# Altium schematic symbol library Control_unit-RM.SCHLIB: 24 symbols
Pins are listed as number, name and electrical type; pins without a type are passive.

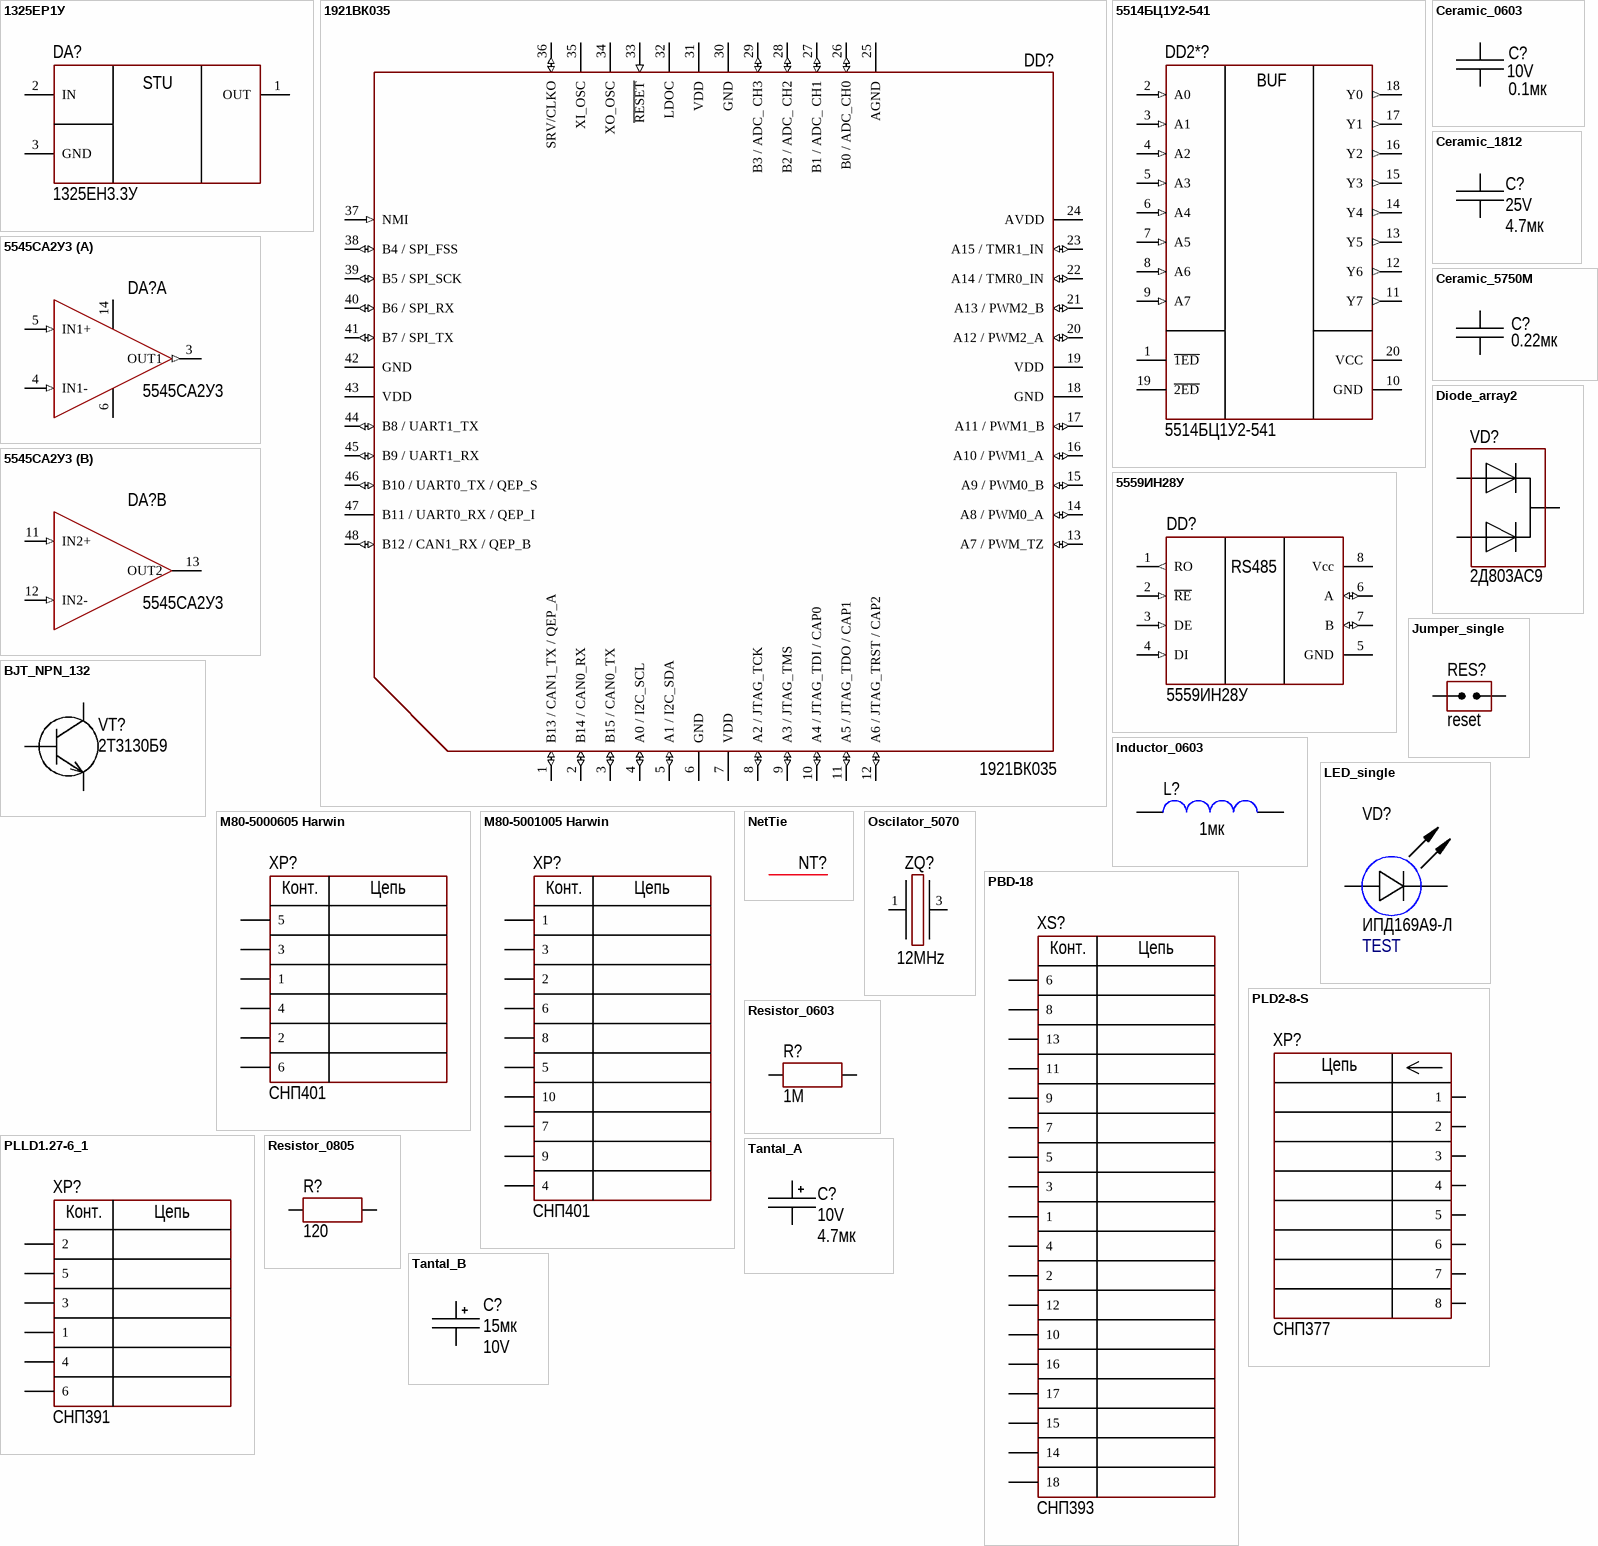
[diagram p0: symbols 1325ЕР1У to Tantal_B]

## 1325ЕР1У
designator DA?  PartNumber: 1325ЕН3.3У
Linear voltage regulator 3V3; Manufacturer: Интеграл; ValueManufacturerPartNumber: Linear voltage regulator, input 4.75...15V, 1.3V, output 3.3V, 0.8A, -40...+85°C, КТ-93-1; VoltageInput: input 4.75...15V; MaxDropout: 1.3V; CurrentOutput: 0.8A; VoltageOutput: output 3.3V; MAX: 00141284; HelpURL: https://www.integral.by/sites/default/files/pdf/specifikaciya_serii_1325.pdf; Package: КТ-93-1; ComponentType: Linear voltage regulator; Temperature: -40...+85°C
footprint KT-93-1
pins: 1 OUT (power), 2 IN (power), 3 GND (power)
text: STU

## 1921ВК035
designator DD?  PartNumber: 1921ВК035
Cortex-M4F; Manufacturer: НИИЭТ; ValueManufacturerPartNumber: Motor control microcontroller, 32-Bit, RISC, 100MHz, 64KB, 16KB, 3,3 В ± 10 %., -60...+85°C, 48-QLCC (МК 5162.48-1); Supply: 3,3 В ± 10 %.; Speed: 100MHz; CoreSize: 32-Bit; MemoryROM: 64KB; MemoryRAM: 16KB; CoreProcessor: RISC; HelpURL: https://niiet.ru/goods/tranzmod/newtr; Package: 48-QLCC (МК 5162.48-1); ComponentType: Motor control microcontroller; Temperature: -60...+85°C
footprint 48-QLCC (МК 5162.48-1) - small pads (QFN-cl-h-48-0.5-002 Тихонов Е.Н.)
pins: 1 B13 / CAN1_TX / QEP_A (io), 2 B14 / CAN0_RX (io), 3 B15 / CAN0_TX (io), 4 A0 / I2C_SCL (io), 5 A1 / I2C_SDA (io), 6 GND (power), 7 VDD (power), 8 A2 / JTAG_TCK (io), 9 A3 / JTAG_TMS (io), 10 A4 / JTAG_TDI / CAP0 (io), 11 A5 / JTAG_TDO / CAP1 (io), 12 A6 / JTAG_TRST / CAP2 (io), 13 A7 / PWM_TZ (io), 14 A8 / PWM0_A (io), 15 A9 / PWM0_B (io), 16 A10 / PWM1_A (io), 17 A11 / PWM1_B (io), 18 GND (power), 19 VDD (power), 20 A12 / PWM2_A (io), 21 A13 / PWM2_B (io), 22 A14 / TMR0_IN (io), 23 A15 / TMR1_IN (io), 24 AVDD (power), 25 AGND (power), 26 B0 / ADC_CH0 (io), 27 B1 / ADC_ CH1 (io), 28 B2 / ADC_ CH2 (io), 29 B3 / ADC_ CH3 (io), 30 GND (power), 31 VDD (power), 32 LDOC, 33 ~{RESET} (in), 34 XO_OSC, 35 XI_OSC, 36 SRV/CLKO (io), 37 NMI (in), 38 B4 / SPI_FSS (io), 39 B5 / SPI_SCK (io), 40 B6 / SPI_RX (io), 41 B7 / SPI_TX (io), 42 GND (power), 43 VDD (power), 44 B8 / UART1_TX (io), 45 B9 / UART1_RX (io), 46 B10 / UART0_TX / QEP_S (io), 47 B11 / UART0_RX / QEP_I, 48 B12 / CAN1_RX / QEP_B (io)

## 5514БЦ1У2-541
designator DD2*?  PartNumber: 5514БЦ1У2-541
USSR Buffer QFN; Manufacturer: Анстрем; ValueManufacturerPartNumber: 8 канальный буфер, 4.5..5.5V, -60...+125°C, 5121.20-A; Supply: 4.5..5.5V; Analog: функц.-й аналог 74(54)HC 541; Package: 5121.20-A; ComponentType: 8 канальный буфер; Temperature: -60...+125°C
footprint 20-QLCC (5121.20-A) (LCC, 20-Pins, Body 8,89x8,89mmx2,55mm, Pitch 1,27mm, IPC Medium Density)
pins: 1 ~{1ED}, 2 A0 (in), 3 A1 (in), 4 A2 (in), 5 A3 (in), 6 A4 (in), 7 A5 (in), 8 A6 (in), 9 A7 (in), 10 GND (power), 11 Y7 (out), 12 Y6 (out), 13 Y5 (out), 14 Y4 (out), 15 Y3 (out), 16 Y2 (out), 17 Y1 (out), 18 Y0 (out), 19 ~{2ED}, 20 VCC (power)
text: BUF

## 5545СА2У3
designator DA?  PartNumber: 5545СА2У3
Comparator USSR; Manufacturer: НПП ВОСТОК; ValueManufacturerPartNumber: IC comparator, Open Drain, от ± 1,5В до ± 16,5В, -60...+125°C, Н04.16-1В; Supply: от ± 1,5В до ± 16,5В; OutputType: Open Drain; Analog: LM2903D; TY: АЕЯР.431350.632-02 ТУ; HelpURL: http://www.vostok.nsk.su/files/pdf/152181836987_5545ca2u3.pdf; Package: Н04.16-1В; ComponentType: IC comparator; Temperature: -60...+125°C
footprint 16-Н04.16-1B (USSR)
part A pins: 3 OUT1 (out), 4 IN1- (in), 5 IN1+ (in), 6 V- (power), 14 V+ (power)
part B pins: 11 IN2+ (in), 12 IN2- (in), 13 OUT2 (power)

## 5559ИН28У
designator DD?
RS485 USSR; Manufacturer: Миландр; Supply: 3-5V; DataRate: 30 Mbs; MAX: 00148111; Type: RS-485 transceiver; Package: Н02.8-1В; PartNumber: 5559ИН28У; HelpURL: https://ic.milandr.ru/products/interfeysnye_mikroskhemy/rs485-rs422/5559in28u/
footprint Н02.8-1В (USSR)
pins: 1 RO (out) "Loc: 1-2", 2 ~{RE} (in) "Loc: 2-3", 3 DE (in) "Loc: 2-4", 4 DI (in) "Loc: 1-3", 5 GND (power) "Loc: 1-4", 6 A (io) "Loc: 2-1", 7 B (io) "Loc: 2-2", 8 Vcc (power) "Loc: 1-1", 9 TP hidden to DGND "connect to GND"
text: RS485

## BJT_NPN_132
designator VT?  PartNumber: 2Т3130Б9
Manufacturer: ООО НПК Далекс; ValueManufacturerPartNumber: NPN transistor, 30V, 100mA, , 300mW, 0.7V, 500, SOT-23 (КТ-46), -55...+125°C; TypeTransistor: NPN transistor; VoltageCE: 30V; CurrentCE: 100mA; VoltageSaturation: 0.7V; CurrentGain: 500; MaxPower: 300mW; MAX: 00123842; Package: SOT-23 (КТ-46); HelpURL: http://www.radioman-portal.ru/sprav/pp/transisters/sourse/2t3130.pdf; Temperature: -55...+125°C
footprint SOT23
footprint D2PAK
footprint DPAK
pins: 1 B, 2 E, 3 C

## Ceramic_0603
designator C?  value 0.1мк  Voltage: 10V
Manufacturer: Гириконд; PartNumber: К10-79-10В-0,1 мкФ +80-20% H90; ValueManufacturerPartNumber: Ceramic capacitor, 0.1мк, H90, +80-20%, 10V, 0603, -55...+125°C; TypeCapacitor: Ceramic capacitor; Tolerance: +80-20%; TypeDielectric: H90; MAX: 00131675; Package: 0603; HelpURL: http://www.giricond.ru/files/k10-79_vp_2018_saiyt.pdf; Temperature: -55...+125°C
footprint CAP: 0603P (small var)
pins: 1, 2

## Ceramic_1812
designator C?  value 4.7мк  Voltage: 25V
Manufacturer: Монолит; PartNumber: К10-84в-4532М-25В-4,7 мкФ +80/-20%-Н90-N-A; ValueManufacturerPartNumber: Ceramic capacitor, 4.7мк, H90, +80 -20%, 25V, 1812 (4532М) (4.5x3.2), -55...+125°C; TypeCapacitor: Ceramic capacitor; Tolerance: +80 -20%; TypeDielectric: H90; Package: 1812 (4532М) (4.5x3.2); HelpURL: http://www.monolit.vitebsk.by/Files/K10-84.pdf; Temperature: -55...+125°C
footprint CAP: 1812
pins: 1, 2

## Ceramic_5750M
designator C?  value 0.22мк
Manufacturer: Монолит; PartNumber: К10-84в-1608М-25В-220 нФ +80/-20%-Н90-N-A; ValueManufacturerPartNumber: Ceramic capacitor, 0.22мк, H90, +80/-20%, 25V, 0805 (2012M), -55...+125°C; TypeCapacitor: Ceramic capacitor; Tolerance: +80/-20%; TypeDielectric: H90; Voltage: 25V; Analog: MAX 00131682 (pin-to-pin); Package: 0805 (2012M); Temperature: -55...+125°C
footprint CAP: 0805
pins: 1, 2

## Diode_array2
designator VD?  PartNumber: 2Д803АС9
Manufacturer: Россия; ValueManufacturerPartNumber: Diode array common anode, 50V, 200mA, 1.1V, , SOT-23,; TypeDiode: Diode array common anode; Voltage: 50V; Current: 200mA; VoltageDrop: 1.1V; MAX: 00122900; Package: SOT-23; HelpURL: https://www.chipdip.ru/product/2d803as9
footprint SOT23
pins: 1, 2, 3

## Inductor_0603
designator L?  value 1мк
Manufacturer: ЭРКОН; PartNumber: КИФ1608-1000 нГн ±20% О-А РКМУ.671340.002 ТУ; ValueManufacturerPartNumber: Fixed inductor, 1мк, ±20%, 0603, 400mA, -55...+125°C; TypeInductor: Fixed inductor; MaxCurrent: 400mA; Tolerance: ±20%; R: 0,8 Ом; Package: 0603; HelpURL: https://www.erkon-nn.ru/catalog/14/kif-vp/; Temperature: -55...+125°C
footprint IND: 0603
pins: 1, 2

## Jumper_single
designator RES?  CommentText: reset
PartNumber: СНП377-2ВП21-1-02-04; Manufacturer: ОАО "Карачевский завод "Электродеталь"; MAX: 00124338; Pitch: 2mm; Analog: MAX 00148900 (PLS2-2); HelpURL: http://www.elektrodetal.com/product/soediniteli-dlya-pechatnyh-plat/snp377.html; Type: штыри 2 пина в отв.
footprint CON: JUMPER x1
footprint CON: PLS-2
footprint CON: PLS2-2 (шаг 2мм, аналог СНП377)
pins: 1 IN, 2 IN

## LED_single
designator VD?  PartNumber: ИПД169А9-Л  CommentText: TEST
Manufacturer: Протон; ValueManufacturerPartNumber: LED, 20mA max, 2.1V typ, 1608, -55...+150°C; TypeDiode: LED; Current: 20mA max; VoltageDrop: 2.1V typ; Color: GREEN; Analog: MAX 00129484 КР-1608 Kingbright (pin-to-pin); Package: 1608; HelpURL: *; Temperature: -55...+150°C
footprint LED: 0402B
footprint LED: 0402G
footprint LED: 0402O
footprint LED: 0402R
footprint LED: 0402Y
footprint LED: 0603B
footprint LED: 0603G
footprint LED: 0603R
footprint LED: 0603Y
footprint LED: 0805B
footprint LED: 0805G
footprint LED: 0805R
footprint LED: 0805Y
footprint LED: 1206B
footprint LED: 1206G
footprint LED: 1206R
footprint LED: 1206W
footprint LED: 1206Y
footprint LED: 3mm_G (зеленый поднят на 4 мм над платой)
pins: 1 A, 2 C

## M80-5000605 Harwin
designator XP?  CommentText: СНП401
вилка на плату; Manufacturer: Электроделать; ValueManufacturerPartNumber: Вилка, 6pin, 2mm, 120VAC, 1.5A; PartNumber: СНП401-6ВП21-3-1-1; VoltageMax: 120VAC; Pitch: 2mm; CurrentMax: 1.5A; Multichannel: 6pin; Analog: MAX 00126397 (M80-5000605 pin-to-pin); HelpURL: https://eu.mouser.com/ProductDetail/Harwin/M80-5000605?qs=yQtJ9TWM%2F1KaJIUUBEXorg%3D%3D; TypeConnector: Вилка
footprint CON: M80-5000605 (HR500)
pins: 1, 2, 3, 4, 5, 6
text: Конт.; Цепь

## M80-5001005 Harwin
designator XP?  CommentText: СНП401
вилка на плату; Manufacturer: Электродеталь; ValueManufacturerPartNumber: Вилка, 10pin, 2mm, 100V, 1.5A; PartNumber: СНП401-10ВП21-3-1-1; VoltageMax: 100V; Pitch: 2mm; CurrentMax: 1.5A; Multichannel: 10pin; Analog: MAX 00126377 (M80-5001042 pin-to-pin); HelpURL: https://eu.mouser.com/ProductDetail/Harwin/M80-5001005?qs=yQtJ9TWM%2F1KRz59nPe3lqQ%3D%3D; TypeConnector: Вилка
footprint CON: M80-5001005 (10 pin)
pins: 1, 2, 3, 4, 5, 6, 7, 8, 9, 10
text: Конт.; Цепь

## NetTie
designator NT?  (net tie, no BOM)
footprint NetTie_0603
pins: 1, 2

## Oscilator_5070
designator ZQ?  Frequency: 12MHz
Manufacturer: ОАО "Морион"; PartNumber: РК486-8ДС-12000K; ValueManufacturerPartNumber: Oscilator, 12MHz, CMOS, ±30ppm, case 5070, -40...+85°C; TypeOscilator: Oscilator; LoadCapacitance: CMOS; Tolerance: ±30ppm; MAX: 00149842; Package: case 5070; HelpURL: http://www.lit-phonon.ru/downloads/RK486.pdf; Temperature: -40...+85°C
footprint OSC: 5070G
pins: 1, 3

## PBD-18
designator XS?  CommentText: СНП393
Manufacturer: Электродеталь; ValueManufacturerPartNumber: Connector, 18pin, 2.54mm, 500VAC, 3A; PartNumber: СНП393-18РП21-2 РЮМК.430420.035 ТУ; TypeConnector: Connector; VoltageMax: 500VAC; Pitch: 2.54mm; CurrentMax: 3A; Multichannel: 18pin; Analog: MAX 00135030 с доработкой до 18-pin; HelpURL: https://www.elektrodetal.com/catalog/snp393/
footprint CON: PBD-18 (PBD-18)
footprint CON: PLD-16R
pins: 1, 2, 3, 4, 5, 6, 7, 8, 9, 10, 11, 12, 13, 14, 15, 16, 17, 18
text: Конт.; Цепь

## PLD2-8-S
designator XP?, comment СНП377
СНП377-8ВП41-2 SMD; Manufacturer: ОАО "Карачевский завод "Электродеталь"; TU: РЮМК.430420.017 ТУ; Pitch: 2mm; Analog: PLD2-8-S; Value: *; RefDes/Designator: *; Pattern/Footprint: *; Type: Вилка; HelpURL: https://www.elektrodetal.com/catalog/snp377/; PartNumber: СНП377-8ВП41-2
footprint CON: PLD2-8-S (двухрядные штыри, шаг 2мм; SMD)
pins: 1, 2, 3, 4, 5, 6, 7, 8
text: Цепь

## PLLD1.27-6_1
designator XP?  CommentText: СНП391
аналог СНП391-6ВП41-2; Manufacturer: Электроделать; ValueManufacturerPartNumber: Connector, 6pin, 1.27mm, 125VAC, 1A; PartNumber: СНП391-6ВП41-2 РЮМК.430420.036 ТУ; TypeConnector: Connector; VoltageMax: 125VAC; Pitch: 1.27mm; CurrentMax: 1A; Multichannel: 6pin; Analog: MAX 00130684 c доработкой до 6 пинов; HelpURL: https://www.elektrodetal.com/catalog/snp391/
footprint CON: PLLD-6-S (smd 6 pin)
pins: 1, 2, 3 (power), 4 (power), 5 (power), 6 (power)
text: Конт.; Цепь

## Resistor_0603
designator R?  value 1М
Manufacturer: ОАО Ресурс; PartNumber: Р1-12-0,1ум.-1~МОм ±5%-М ШКАБ.434110.002 ТУ; ValueManufacturerPartNumber: Resistor film, 1М, ±5%, 0603, 0.1W, -55...+125°C; TypeResistor: Resistor film; Power: 0.1W; Tolerance: ±5%; MAX: 00133970; Package: 0603; HelpURL: https://aoresurs.com/catalog/chip_rezistory/rezistory-r1-12-kategoriya-kachestva-vp-/; Temperature: -55...+125°C
footprint RES: 0603P (small footprint)
pins: 1, 2

## Resistor_0805
designator R?  value 120
Manufacturer: Русские; PartNumber: Р1-12-0.125-120 Ом±5%-М; ValueManufacturerPartNumber: Resistor film, 120, ±5%, 0805, 0.125W, -55...+125°C; TypeResistor: Resistor film; Power: 0.125W; Tolerance: ±5%; MAX: 00133848; Package: 0805; Temperature: -55...+125°C
footprint RES: 0805P (small footprint)
pins: 1, 2

## Tantal_A
designator C?  value 4.7мк  Voltage: 10V
Manufacturer: Элеконд; PartNumber: К53-68 "А"-10 В-4.7 мкф; ValueManufacturerPartNumber: Tantalum capacitor, 4.7мк, 10V, ±10%, 2Ohm, case A (3216), -55...+125°C; Impedance: 2Ohm; Tolerance: ±10%; TypeDielectric: X7R; TypeCapacitor: Tantalum capacitor; MAX: 00130629; Package: case A (3216); HelpURL: https://www.digikey.com/product-detail/en/avx-corporation/F930J107KAAAJ6/478-12404-1-ND/9645231; Temperature: -55...+125°C
footprint CAP: TANTAL-A
pins: 1, 2

## Tantal_B
designator C?  value 15мк  Voltage: 10V
Manufacturer: "Элеконд"; PartNumber: К53-68 В-10 В-15 мкФ ±10%; ValueManufacturerPartNumber: Tantalum capacitor, 15мк, 10V, ±10%, , case B (3528), -55...+125°C; Tolerance: ±10%; TypeCapacitor: Tantalum capacitor; MAX: 00130628; Package: case B (3528); Temperature: -55...+125°C
footprint CAP: TANTAL-B
pins: 1 (power), 2 (power)